# EAGLE library part DRV8833 (library icv1)
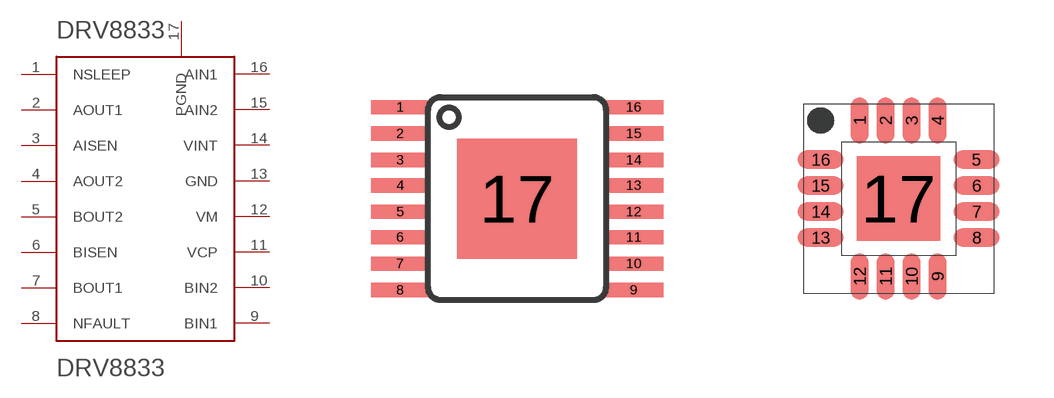
[diagram p1: symbol with the pads of SOP65P640X120-17N; footprints SOP65P640X120-17N, PWQFN-16]

Designator prefix -

## DRV8833  [SOP65P640X120-17N]
1  NSLEEP
2  AOUT1
3  AISEN
4  AOUT2
5  BOUT2
6  BISEN
7  BOUT1
8  NFAULT
9  BIN1
10  BIN2
11  VCP
12  VM
13  GND
14  VINT
15  AIN2
16  AIN1
17  PGND

## DRV8833MINI  [PWQFN-16]
1  AISEN
2  AOUT2
3  BOUT2
4  BISEN
5  BOUT1
6  NFAULT
7  BIN1
8  BIN2
9  VCP
10  VM
11  GND
12  VINT
13  AIN2
14  AIN1
15  NSLEEP
16  AOUT1
17  PGND

## Footprint SOP65P640X120-17N (pad centres in mm)
smd 1.473 x 0.356: 1 -2.921,2.286; 2 -2.921,1.626; 3 -2.921,0.965; 4 -2.921,0.33; 5 -2.921,-0.33; 6 -2.921,-0.965; 7 -2.921,-1.626; 8 -2.921,-2.286; 9 2.921,-2.286; 10 2.921,-1.626; 11 2.921,-0.965; 12 2.921,-0.33; 13 2.921,0.33; 14 2.921,0.965; 15 2.921,1.626; 16 2.921,2.286
smd 2.997 x 2.997: 17 0,0

## Footprint PWQFN-16 (pad centres in mm)
smd 0.45 x 1.15: 1 -0.975,1.95; 2 -0.325,1.95; 3 0.325,1.95; 4 0.975,1.95; 9 0.975,-1.95; 10 0.325,-1.95; 11 -0.325,-1.95; 12 -0.975,-1.95
smd 1.15 x 0.45: 5 1.95,0.975; 6 1.95,0.325; 7 1.95,-0.325; 8 1.95,-0.975; 13 -1.95,-0.975; 14 -1.95,-0.325; 15 -1.95,0.325; 16 -1.95,0.975
smd 2.1 x 2.1: 17 0,0